# Altium schematic symbol library CONN_6P.Schlib: 1 symbol
Pins are listed as number, name and electrical type; pins without a type are passive.

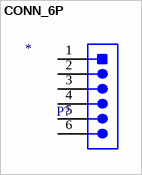
[diagram p0: symbol CONN_6P]

## CONN_6P
designator P?
Value: *
pins: 1, 2, 3, 4, 5, 6